# Altium integrated library ON Semi Zener Diodes.IntLib: 1366 symbols (part 4 of 29)
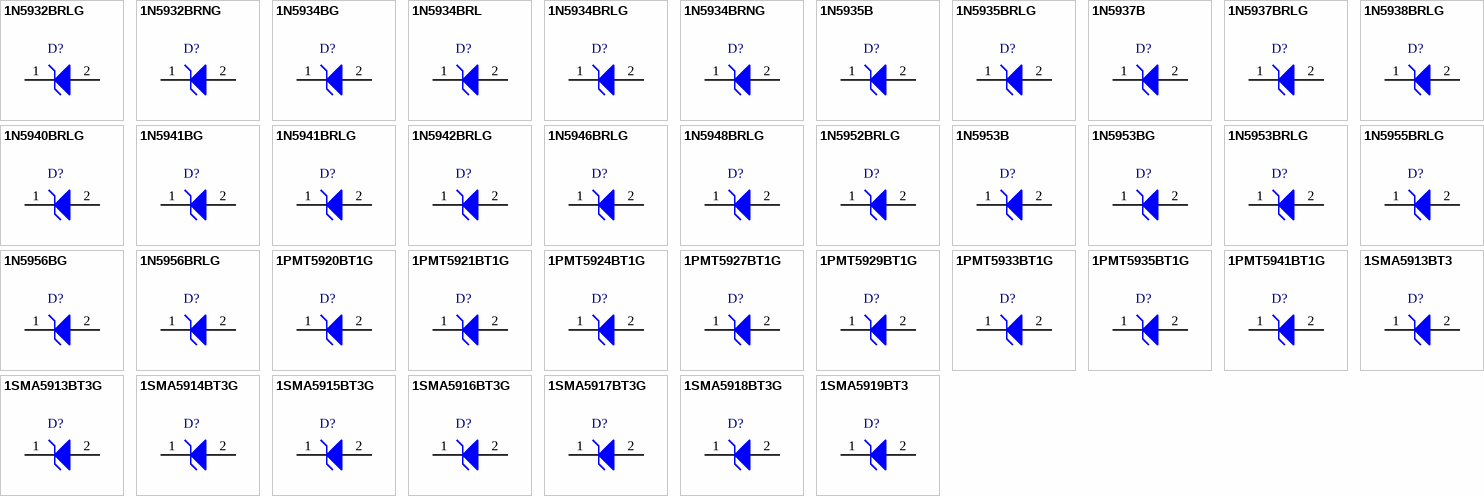
[diagram p47: symbols 1N5932BRLG to 1SMA5919BT3]

## 1N5953BRLG
designator D?
3 W Zener Voltage Regulator, 2-Pin Axial_Lead, Pb-Free, Tape and Reel; Manufacturer: On Semiconductor; PartNumber: 1N5953BRLG; VZ Typ (V): 150; DatasheetVersion: Rev. 5; PackageVersion: Rev. U, 02/2005; PackageReference: AXIAL_LEAD-2-59-10; PackageDescription: 2-Pin, Axial Lead, Diameter 2.35 mm; Supplier 1: Digi-Key; Supplier Part Number 1: 1N5953BRLGOSTR-ND; Supplier 2: Digi-Key; Supplier Part Number 2: 1N5953BRLGOSCT-ND; Supplier 3: Farnell; Supplier Part Number 3: 1861231; Supplier 4: Newark; Supplier Part Number 4: 09R9780; Supplier 5: Mouser; Supplier Part Number 5: 863-1N5953BRLG; Packing: Tape and Reel; RoHS: Pb-Free; Mounting Technology: Through Hole; ComponentLink1Description: Manufacturer URL; ComponentLink1URL: http://www.onsemi.com/; ComponentLink2Description: Datasheet; ComponentLink2URL: http://www.onsemi.cn/pub_link/Collateral/1N5913B-D.PDF; ComponentLink3Description: Package Specification; ComponentLink3URL: http://www.onsemi.cn/pub_link/Collateral/59-10.PDF
footprint ONSC-AXIAL_LEAD-2-59-10_P (AXIAL, 2-Leads, Diameter 2.35mm)
pins: 1 K, 2 A

## 1N5955BRLG
designator D?
3 W Zener Voltage Regulator, 2-Pin Axial_Lead, Pb-Free, Tape and Reel; Manufacturer: On Semiconductor; PartNumber: 1N5955BRLG; VZ Typ (V): 180; DatasheetVersion: Rev. 5; PackageVersion: Rev. U, 02/2005; PackageReference: AXIAL_LEAD-2-59-10; PackageDescription: 2-Pin, Axial Lead, Diameter 2.35 mm; Supplier 1: Digi-Key; Supplier Part Number 1: 1N5955BRLGOSTR-ND; Supplier 2: Digi-Key; Supplier Part Number 2: 1N5955BRLGOSCT-ND; Supplier 3: Farnell; Supplier Part Number 3: 1705688; Supplier 4: Newark; Supplier Part Number 4: 10N9646; Supplier 5: Newark; Supplier Part Number 5: 42K2997; Supplier 6: Mouser; Supplier Part Number 6: 863-1N5955BRLG; Packing: Tape and Reel; RoHS: Pb-Free; Mounting Technology: Through Hole; ComponentLink1Description: Manufacturer URL; ComponentLink1URL: http://www.onsemi.com/; ComponentLink2Description: Datasheet; ComponentLink2URL: http://www.onsemi.cn/pub_link/Collateral/1N5913B-D.PDF; ComponentLink3Description: Package Specification; ComponentLink3URL: http://www.onsemi.cn/pub_link/Collateral/59-10.PDF
footprint ONSC-AXIAL_LEAD-2-59-10_P (AXIAL, 2-Leads, Diameter 2.35mm)
pins: 1 K, 2 A

## 1N5956BG
designator D?
3 W Zener Voltage Regulator, 2-Pin Axial_Lead, Pb-Free, Bulk Box; Manufacturer: On Semiconductor; PartNumber: 1N5956BG; VZ Typ (V): 200; DatasheetVersion: Rev. 5; PackageVersion: Rev. U, 02/2005; PackageReference: AXIAL_LEAD-2-59-10; PackageDescription: 2-Pin, Axial Lead, Diameter 2.35 mm; Supplier 1: Digi-Key; Supplier Part Number 1: 1N5956BGOS-ND; Supplier 2: Farnell; Supplier Part Number 2: 1126329; Supplier 3: Mouser; Supplier Part Number 3: 863-1N5956BG; Packing: Bulk Box; RoHS: Pb-Free; Mounting Technology: Through Hole; ComponentLink1Description: Manufacturer URL; ComponentLink1URL: http://www.onsemi.com/; ComponentLink2Description: Datasheet; ComponentLink2URL: http://www.onsemi.cn/pub_link/Collateral/1N5913B-D.PDF; ComponentLink3Description: Package Specification; ComponentLink3URL: http://www.onsemi.cn/pub_link/Collateral/59-10.PDF
footprint ONSC-AXIAL_LEAD-2-59-10_P (AXIAL, 2-Leads, Diameter 2.35mm)
pins: 1 K, 2 A

## 1N5956BRLG
designator D?
3 W Zener Voltage Regulator, 2-Pin Axial_Lead, Pb-Free, Tape and Reel; Manufacturer: On Semiconductor; PartNumber: 1N5956BRLG; VZ Typ (V): 200; DatasheetVersion: Rev. 5; PackageVersion: Rev. U, 02/2005; PackageReference: AXIAL_LEAD-2-59-10; PackageDescription: 2-Pin, Axial Lead, Diameter 2.35 mm; Supplier 1: Digi-Key; Supplier Part Number 1: 1N5956BRLGOSTR-ND; Supplier 2: Digi-Key; Supplier Part Number 2: 1N5956BRLGOSCT-ND; Supplier 3: Farnell; Supplier Part Number 3: 2101211; Supplier 4: Mouser; Supplier Part Number 4: 863-1N5956BRLG; Packing: Tape and Reel; RoHS: Pb-Free; Mounting Technology: Through Hole; ComponentLink1Description: Manufacturer URL; ComponentLink1URL: http://www.onsemi.com/; ComponentLink2Description: Datasheet; ComponentLink2URL: http://www.onsemi.cn/pub_link/Collateral/1N5913B-D.PDF; ComponentLink3Description: Package Specification; ComponentLink3URL: http://www.onsemi.cn/pub_link/Collateral/59-10.PDF
footprint ONSC-AXIAL_LEAD-2-59-10_P (AXIAL, 2-Leads, Diameter 2.35mm)
pins: 1 K, 2 A

## 1PMT5920BT1G
designator D?
3.2 W Plastic Surface Mount, 2-Pin POWERMITE, Pb-Free, Tape and Reel; Manufacturer: On Semiconductor; PartNumber: 1PMT5920BT1G; VZ Typ (V): 6.2; DatasheetVersion: Rev. 4; PackageVersion: Rev. F, 05/2013; PackageReference: POWERMITE-2-457-04; PackageDescription: 2-Pin POWERMITE, Body 1.965 x 1.9 mm; Supplier 1: Digi-Key; Supplier Part Number 1: 1PMT5920BT1GOSTR-ND; Supplier 2: Digi-Key; Supplier Part Number 2: 1PMT5920BT1GOSCT-ND; Supplier 3: Digi-Key; Supplier Part Number 3: 1PMT5920BT1GOSDKR-ND; Supplier 4: Farnell; Supplier Part Number 4: 1431128RL; Supplier 5: Newark; Supplier Part Number 5: 10N9648; Supplier 6: Newark; Supplier Part Number 6: 45J2403; Supplier 7: Mouser; Supplier Part Number 7: 863-1PMT5920BT1G; Packing: Tape and Reel; RoHS: Pb-Free; Mounting Technology: Surface Mount; ComponentLink1Description: Manufacturer URL; ComponentLink1URL: http://www.onsemi.com/; ComponentLink2Description: Datasheet; ComponentLink2URL: http://www.onsemi.com/pub_link/Collateral/1PMT5920B-D.PDF; ComponentLink3Description: Package Specification; ComponentLink3URL: http://www.onsemi.com/pub_link/Collateral/457-04.PDF
footprint ONSC-POWERMITE-2-457-04_D_V (POWERMITE, 2-Leads, Body 1.965x1.9mm)
pins: 1 K, 2 A

## 1PMT5921BT1G
designator D?
3.2 W Plastic Surface Mount, 2-Pin POWERMITE, Pb-Free, Tape and Reel; Manufacturer: On Semiconductor; PartNumber: 1PMT5921BT1G; VZ Typ (V): 6.8; DatasheetVersion: Rev. 4; PackageVersion: Rev. F, 05/2013; PackageReference: POWERMITE-2-457-04; PackageDescription: 2-Pin POWERMITE, Body 1.965 x 1.9 mm; Supplier 1: Digi-Key; Supplier Part Number 1: 1PMT5921BT1GOSTR-ND; Supplier 2: Digi-Key; Supplier Part Number 2: 1PMT5921BT1GOSCT-ND; Supplier 3: Digi-Key; Supplier Part Number 3: 1PMT5921BT1GOSDKR-ND; Supplier 4: Newark; Supplier Part Number 4: 61K2042; Supplier 5: Mouser; Supplier Part Number 5: 863-1PMT5921BT1G; Packing: Tape and Reel; RoHS: Pb-Free; Mounting Technology: Surface Mount; ComponentLink1Description: Manufacturer URL; ComponentLink1URL: http://www.onsemi.com/; ComponentLink2Description: Datasheet; ComponentLink2URL: http://www.onsemi.com/pub_link/Collateral/1PMT5920B-D.PDF; ComponentLink3Description: Package Specification; ComponentLink3URL: http://www.onsemi.com/pub_link/Collateral/457-04.PDF
footprint ONSC-POWERMITE-2-457-04_D_V (POWERMITE, 2-Leads, Body 1.965x1.9mm)
pins: 1 K, 2 A

## 1PMT5924BT1G
designator D?
3.2 W Plastic Surface Mount, 2-Pin POWERMITE, Pb-Free, Tape and Reel; Manufacturer: On Semiconductor; PartNumber: 1PMT5924BT1G; VZ Typ (V): 9.1; DatasheetVersion: Rev. 4; PackageVersion: Rev. F, 05/2013; PackageReference: POWERMITE-2-457-04; PackageDescription: 2-Pin POWERMITE, Body 1.965 x 1.9 mm; Supplier 1: Digi-Key; Supplier Part Number 1: 1PMT5924BT1GOSTR-ND; Supplier 2: Digi-Key; Supplier Part Number 2: 1PMT5924BT1GOSCT-ND; Supplier 3: Digi-Key; Supplier Part Number 3: 1PMT5924BT1GOSDKR-ND; Supplier 4: Newark; Supplier Part Number 4: 70K6994; Supplier 5: Mouser; Supplier Part Number 5: 863-1PMT5924BT1G; Packing: Tape and Reel; RoHS: Pb-Free; Mounting Technology: Surface Mount; ComponentLink1Description: Manufacturer URL; ComponentLink1URL: http://www.onsemi.com/; ComponentLink2Description: Datasheet; ComponentLink2URL: http://www.onsemi.com/pub_link/Collateral/1PMT5920B-D.PDF; ComponentLink3Description: Package Specification; ComponentLink3URL: http://www.onsemi.com/pub_link/Collateral/457-04.PDF
footprint ONSC-POWERMITE-2-457-04_D_V (POWERMITE, 2-Leads, Body 1.965x1.9mm)
pins: 1 K, 2 A

## 1PMT5927BT1G
designator D?
3.2 W Plastic Surface Mount, 2-Pin POWERMITE, Pb-Free, Tape and Reel; Manufacturer: On Semiconductor; PartNumber: 1PMT5927BT1G; VZ Typ (V): 12; DatasheetVersion: Rev. 4; PackageVersion: Rev. F, 05/2013; PackageReference: POWERMITE-2-457-04; PackageDescription: 2-Pin POWERMITE, Body 1.965 x 1.9 mm; Supplier 1: Digi-Key; Supplier Part Number 1: 1PMT5927BT1GOS-ND; Supplier 2: Newark; Supplier Part Number 2: 26K5241; Supplier 3: Mouser; Supplier Part Number 3: 863-1PMT5927BT1G; Packing: Tape and Reel; RoHS: Pb-Free; Mounting Technology: Surface Mount; ComponentLink1Description: Manufacturer URL; ComponentLink1URL: http://www.onsemi.com/; ComponentLink2Description: Datasheet; ComponentLink2URL: http://www.onsemi.com/pub_link/Collateral/1PMT5920B-D.PDF; ComponentLink3Description: Package Specification; ComponentLink3URL: http://www.onsemi.com/pub_link/Collateral/457-04.PDF
footprint ONSC-POWERMITE-2-457-04_D_V (POWERMITE, 2-Leads, Body 1.965x1.9mm)
pins: 1 K, 2 A

## 1PMT5929BT1G
designator D?
3.2 W Plastic Surface Mount, 2-Pin POWERMITE, Pb-Free, Tape and Reel; Manufacturer: On Semiconductor; PartNumber: 1PMT5929BT1G; VZ Typ (V): 15; DatasheetVersion: Rev. 4; PackageVersion: Rev. F, 05/2013; PackageReference: POWERMITE-2-457-04; PackageDescription: 2-Pin POWERMITE, Body 1.965 x 1.9 mm; Supplier 1: Digi-Key; Supplier Part Number 1: 1PMT5929BT1GOSTR-ND; Supplier 2: Digi-Key; Supplier Part Number 2: 1PMT5929BT1GOSCT-ND; Supplier 3: Newark; Supplier Part Number 3: 45J2404; Supplier 4: Mouser; Supplier Part Number 4: 863-1PMT5929BT1G; Packing: Tape and Reel; RoHS: Pb-Free; Mounting Technology: Surface Mount; ComponentLink1Description: Manufacturer URL; ComponentLink1URL: http://www.onsemi.com/; ComponentLink2Description: Datasheet; ComponentLink2URL: http://www.onsemi.com/pub_link/Collateral/1PMT5920B-D.PDF; ComponentLink3Description: Package Specification; ComponentLink3URL: http://www.onsemi.com/pub_link/Collateral/457-04.PDF
footprint ONSC-POWERMITE-2-457-04_D_V (POWERMITE, 2-Leads, Body 1.965x1.9mm)
pins: 1 K, 2 A

## 1PMT5933BT1G
designator D?
3.2 W Plastic Surface Mount, 2-Pin POWERMITE, Pb-Free, Tape and Reel; Manufacturer: On Semiconductor; PartNumber: 1PMT5933BT1G; VZ Typ (V): 22; DatasheetVersion: Rev. 4; PackageVersion: Rev. F, 05/2013; PackageReference: POWERMITE-2-457-04; PackageDescription: 2-Pin POWERMITE, Body 1.965 x 1.9 mm; Supplier 1: Digi-Key; Supplier Part Number 1: 1PMT5933BT1G-ND; Supplier 2: Newark; Supplier Part Number 2: 70K6998; Supplier 3: Mouser; Supplier Part Number 3: 863-1PMT5933BT1G; Packing: Tape and Reel; RoHS: Pb-Free; Mounting Technology: Surface Mount; ComponentLink1Description: Manufacturer URL; ComponentLink1URL: http://www.onsemi.com/; ComponentLink2Description: Datasheet; ComponentLink2URL: http://www.onsemi.com/pub_link/Collateral/1PMT5920B-D.PDF; ComponentLink3Description: Package Specification; ComponentLink3URL: http://www.onsemi.com/pub_link/Collateral/457-04.PDF
footprint ONSC-POWERMITE-2-457-04_D_V (POWERMITE, 2-Leads, Body 1.965x1.9mm)
pins: 1 K, 2 A

## 1PMT5935BT1G
designator D?
3.2 W Plastic Surface Mount, 2-Pin POWERMITE, Pb-Free, Tape and Reel; Manufacturer: On Semiconductor; PartNumber: 1PMT5935BT1G; VZ Typ (V): 27; DatasheetVersion: Rev. 4; PackageVersion: Rev. F, 05/2013; PackageReference: POWERMITE-2-457-04; PackageDescription: 2-Pin POWERMITE, Body 1.965 x 1.9 mm; Supplier 1: Digi-Key; Supplier Part Number 1: 1PMT5935BT1G-ND; Supplier 2: Newark; Supplier Part Number 2: 70K7000; Supplier 3: Mouser; Supplier Part Number 3: 863-1PMT5935BT1G; Packing: Tape and Reel; RoHS: Pb-Free; Mounting Technology: Surface Mount; ComponentLink1Description: Manufacturer URL; ComponentLink1URL: http://www.onsemi.com/; ComponentLink2Description: Datasheet; ComponentLink2URL: http://www.onsemi.com/pub_link/Collateral/1PMT5920B-D.PDF; ComponentLink3Description: Package Specification; ComponentLink3URL: http://www.onsemi.com/pub_link/Collateral/457-04.PDF
footprint ONSC-POWERMITE-2-457-04_D_V (POWERMITE, 2-Leads, Body 1.965x1.9mm)
pins: 1 K, 2 A

## 1PMT5941BT1G
designator D?
3.2 W Plastic Surface Mount, 2-Pin POWERMITE, Pb-Free, Tape and Reel; Manufacturer: On Semiconductor; PartNumber: 1PMT5941BT1G; VZ Typ (V): 47; DatasheetVersion: Rev. 4; PackageVersion: Rev. F, 05/2013; PackageReference: POWERMITE-2-457-04; PackageDescription: 2-Pin POWERMITE, Body 1.965 x 1.9 mm; Supplier 1: Digi-Key; Supplier Part Number 1: 1PMT5941BT1GOS-ND; Supplier 2: Mouser; Supplier Part Number 2: 863-1PMT5941BT1G; Packing: Tape and Reel; RoHS: Pb-Free; Mounting Technology: Surface Mount; ComponentLink1Description: Manufacturer URL; ComponentLink1URL: http://www.onsemi.com/; ComponentLink2Description: Datasheet; ComponentLink2URL: http://www.onsemi.com/pub_link/Collateral/1PMT5920B-D.PDF; ComponentLink3Description: Package Specification; ComponentLink3URL: http://www.onsemi.com/pub_link/Collateral/457-04.PDF
footprint ONSC-POWERMITE-2-457-04_D_V (POWERMITE, 2-Leads, Body 1.965x1.9mm)
pins: 1 K, 2 A

## 1SMA5913BT3
designator D?
1.5 W Zener Voltage Regulator, 2-Pin SMA, Tape and Reel; Manufacturer: On Semiconductor; PartNumber: 1SMA5913BT3; VZ Typ (V): 3.3; DatasheetVersion: Rev. 8; PackageVersion: Rev. F, 11/2008; PackageReference: SMA-2-403D-02_F; PackageDescription: 2-Pin Small Molded Package, J-Bend Lead, Body 2.605 x 4.315 mm; Supplier 1: Digi-Key; Supplier Part Number 1: 1SMA5913BT3OSTR-ND; Supplier 2: Digi-Key; Supplier Part Number 2: 1SMA5913BT3OSCT-ND; Supplier 3: Digi-Key; Supplier Part Number 3: 1SMA5913BT3OSDKR-ND; Packing: Tape and Reel; Mounting Technology: Surface Mount; ComponentLink1Description: Manufacturer URL; ComponentLink1URL: http://www.onsemi.com/; ComponentLink2Description: Datasheet; ComponentLink2URL: http://www.onsemi.com/pub_link/Collateral/1SMA5913BT3-D.PDF; ComponentLink3Description: Package Specification; ComponentLink3URL: http://www.onsemi.com/pub_link/Collateral/1SMA5913BT3-D.PDF
footprint ONSC-SMA-2-403D-02_F_V (Molded, 2-Leads, Body 4.32x2.6mm)
pins: 1 K, 2 A

## 1SMA5913BT3G
designator D?
1.5 W Zener Voltage Regulator, 2-Pin SMA, Pb-Free, Tape and Reel; Manufacturer: On Semiconductor; PartNumber: 1SMA5913BT3G; VZ Typ (V): 3.3; DatasheetVersion: Rev. 8; PackageVersion: Rev. F, 11/2008; PackageReference: SMA-2-403D-02_F; PackageDescription: 2-Pin Small Molded Package, J-Bend Lead, Body 2.605 x 4.315 mm; Supplier 1: Digi-Key; Supplier Part Number 1: 1SMA5913BT3GOSTR-ND; Supplier 2: Digi-Key; Supplier Part Number 2: 1SMA5913BT3GOSCT-ND; Supplier 3: Digi-Key; Supplier Part Number 3: 1SMA5913BT3GOSDKR-ND; Supplier 4: Farnell; Supplier Part Number 4: 1431138RL; Supplier 5: Farnell; Supplier Part Number 5: 1431138; Supplier 6: Newark; Supplier Part Number 6: 26K5252; Supplier 7: Mouser; Supplier Part Number 7: 863-1SMA5913BT3G; Packing: Tape and Reel; RoHS: Pb-Free; Mounting Technology: Surface Mount; ComponentLink1Description: Manufacturer URL; ComponentLink1URL: http://www.onsemi.com/; ComponentLink2Description: Datasheet; ComponentLink2URL: http://www.onsemi.com/pub_link/Collateral/1SMA5913BT3-D.PDF; ComponentLink3Description: Package Specification; ComponentLink3URL: http://www.onsemi.com/pub_link/Collateral/1SMA5913BT3-D.PDF
footprint ONSC-SMA-2-403D-02_F_V (Molded, 2-Leads, Body 4.32x2.6mm)
pins: 1 K, 2 A

## 1SMA5914BT3G
designator D?
1.5 W Zener Voltage Regulator, 2-Pin SMA, Pb-Free, Tape and Reel; Manufacturer: On Semiconductor; PartNumber: 1SMA5914BT3G; VZ Typ (V): 3.6; DatasheetVersion: Rev. 8; PackageVersion: Rev. F, 11/2008; PackageReference: SMA-2-403D-02_F; PackageDescription: 2-Pin Small Molded Package, J-Bend Lead, Body 2.605 x 4.315 mm; Supplier 1: Digi-Key; Supplier Part Number 1: 1SMA5914BT3GOSTR-ND; Supplier 2: Digi-Key; Supplier Part Number 2: 1SMA5914BT3GOSCT-ND; Supplier 3: Digi-Key; Supplier Part Number 3: 1SMA5914BT3GOSDKR-ND; Supplier 4: Farnell; Supplier Part Number 4: 1611420RL; Supplier 5: Farnell; Supplier Part Number 5: 1611420; Supplier 6: Newark; Supplier Part Number 6: 26K5253; Supplier 7: Mouser; Supplier Part Number 7: 863-1SMA5914BT3G; Packing: Tape and Reel; RoHS: Pb-Free; Mounting Technology: Surface Mount; ComponentLink1Description: Manufacturer URL; ComponentLink1URL: http://www.onsemi.com/; ComponentLink2Description: Datasheet; ComponentLink2URL: http://www.onsemi.com/pub_link/Collateral/1SMA5913BT3-D.PDF; ComponentLink3Description: Package Specification; ComponentLink3URL: http://www.onsemi.com/pub_link/Collateral/1SMA5913BT3-D.PDF
footprint ONSC-SMA-2-403D-02_F_V (Molded, 2-Leads, Body 4.32x2.6mm)
pins: 1 K, 2 A

## 1SMA5915BT3G
designator D?
1.5 W Zener Voltage Regulator, 2-Pin SMA, Pb-Free, Tape and Reel; Manufacturer: On Semiconductor; PartNumber: 1SMA5915BT3G; VZ Typ (V): 3.9; DatasheetVersion: Rev. 8; PackageVersion: Rev. F, 11/2008; PackageReference: SMA-2-403D-02_F; PackageDescription: 2-Pin Small Molded Package, J-Bend Lead, Body 2.605 x 4.315 mm; Supplier 1: Digi-Key; Supplier Part Number 1: 1SMA5915BT3GOSTR-ND; Supplier 2: Digi-Key; Supplier Part Number 2: 1SMA5915BT3GOSCT-ND; Supplier 3: Digi-Key; Supplier Part Number 3: 1SMA5915BT3GOSDKR-ND; Supplier 4: Farnell; Supplier Part Number 4: 1459010RL; Supplier 5: Farnell; Supplier Part Number 5: 1459010; Supplier 6: Newark; Supplier Part Number 6: 45J2416; Supplier 7: Mouser; Supplier Part Number 7: 863-1SMA5915BT3G; Packing: Tape and Reel; RoHS: Pb-Free; Mounting Technology: Surface Mount; ComponentLink1Description: Manufacturer URL; ComponentLink1URL: http://www.onsemi.com/; ComponentLink2Description: Datasheet; ComponentLink2URL: http://www.onsemi.com/pub_link/Collateral/1SMA5913BT3-D.PDF; ComponentLink3Description: Package Specification; ComponentLink3URL: http://www.onsemi.com/pub_link/Collateral/1SMA5913BT3-D.PDF
footprint ONSC-SMA-2-403D-02_F_V (Molded, 2-Leads, Body 4.32x2.6mm)
pins: 1 K, 2 A

## 1SMA5916BT3G
designator D?
1.5 W Zener Voltage Regulator, 2-Pin SMA, Pb-Free, Tape and Reel; Manufacturer: On Semiconductor; PartNumber: 1SMA5916BT3G; VZ Typ (V): 4.3; DatasheetVersion: Rev. 8; PackageVersion: Rev. F, 11/2008; PackageReference: SMA-2-403D-02_F; PackageDescription: 2-Pin Small Molded Package, J-Bend Lead, Body 2.605 x 4.315 mm; Supplier 1: Digi-Key; Supplier Part Number 1: 1SMA5916BT3GOSTR-ND; Supplier 2: Digi-Key; Supplier Part Number 2: 1SMA5916BT3GOSCT-ND; Supplier 3: Digi-Key; Supplier Part Number 3: 1SMA5916BT3GOSDKR-ND; Supplier 4: Farnell; Supplier Part Number 4: 1703016RL; Supplier 5: Farnell; Supplier Part Number 5: 1703016; Supplier 6: Newark; Supplier Part Number 6: 71J9193; Supplier 7: Mouser; Supplier Part Number 7: 863-1SMA5916BT3G; Packing: Tape and Reel; RoHS: Pb-Free; Mounting Technology: Surface Mount; ComponentLink1Description: Manufacturer URL; ComponentLink1URL: http://www.onsemi.com/; ComponentLink2Description: Datasheet; ComponentLink2URL: http://www.onsemi.com/pub_link/Collateral/1SMA5913BT3-D.PDF; ComponentLink3Description: Package Specification; ComponentLink3URL: http://www.onsemi.com/pub_link/Collateral/1SMA5913BT3-D.PDF
footprint ONSC-SMA-2-403D-02_F_V (Molded, 2-Leads, Body 4.32x2.6mm)
pins: 1 K, 2 A

## 1SMA5917BT3G
designator D?
1.5 W Zener Voltage Regulator, 2-Pin SMA, Pb-Free, Tape and Reel; Manufacturer: On Semiconductor; PartNumber: 1SMA5917BT3G; VZ Typ (V): 4.7; DatasheetVersion: Rev. 8; PackageVersion: Rev. F, 11/2008; PackageReference: SMA-2-403D-02_F; PackageDescription: 2-Pin Small Molded Package, J-Bend Lead, Body 2.605 x 4.315 mm; Supplier 1: Digi-Key; Supplier Part Number 1: 1SMA5917BT3GOSTR-ND; Supplier 2: Digi-Key; Supplier Part Number 2: 1SMA5917BT3GOSCT-ND; Supplier 3: Digi-Key; Supplier Part Number 3: 1SMA5917BT3GOSDKR-ND; Supplier 4: Farnell; Supplier Part Number 4: 1431139; Supplier 5: Farnell; Supplier Part Number 5: 1431139RL; Supplier 6: Newark; Supplier Part Number 6: 26K5254; Supplier 7: Mouser; Supplier Part Number 7: 863-1SMA5917BT3G; Packing: Tape and Reel; RoHS: Pb-Free; Mounting Technology: Surface Mount; ComponentLink1Description: Manufacturer URL; ComponentLink1URL: http://www.onsemi.com/; ComponentLink2Description: Datasheet; ComponentLink2URL: http://www.onsemi.com/pub_link/Collateral/1SMA5913BT3-D.PDF; ComponentLink3Description: Package Specification; ComponentLink3URL: http://www.onsemi.com/pub_link/Collateral/1SMA5913BT3-D.PDF
footprint ONSC-SMA-2-403D-02_F_V (Molded, 2-Leads, Body 4.32x2.6mm)
pins: 1 K, 2 A

## 1SMA5918BT3G
designator D?
1.5 W Zener Voltage Regulator, 2-Pin SMA, Pb-Free, Tape and Reel; Manufacturer: On Semiconductor; PartNumber: 1SMA5918BT3G; VZ Typ (V): 5.1; DatasheetVersion: Rev. 8; PackageVersion: Rev. F, 11/2008; PackageReference: SMA-2-403D-02_F; PackageDescription: 2-Pin Small Molded Package, J-Bend Lead, Body 2.605 x 4.315 mm; Supplier 1: Digi-Key; Supplier Part Number 1: 1SMA5918BT3GOSTR-ND; Supplier 2: Digi-Key; Supplier Part Number 2: 1SMA5918BT3GOSCT-ND; Supplier 3: Digi-Key; Supplier Part Number 3: 1SMA5918BT3GOSDKR-ND; Supplier 4: Farnell; Supplier Part Number 4: 1431140; Supplier 5: Farnell; Supplier Part Number 5: 1431140RL; Supplier 6: Newark; Supplier Part Number 6: 71J9194; Supplier 7: Mouser; Supplier Part Number 7: 863-1SMA5918BT3G; Packing: Tape and Reel; RoHS: Pb-Free; Mounting Technology: Surface Mount; ComponentLink1Description: Manufacturer URL; ComponentLink1URL: http://www.onsemi.com/; ComponentLink2Description: Datasheet; ComponentLink2URL: http://www.onsemi.com/pub_link/Collateral/1SMA5913BT3-D.PDF; ComponentLink3Description: Package Specification; ComponentLink3URL: http://www.onsemi.com/pub_link/Collateral/1SMA5913BT3-D.PDF
footprint ONSC-SMA-2-403D-02_F_V (Molded, 2-Leads, Body 4.32x2.6mm)
pins: 1 K, 2 A

## 1SMA5919BT3
designator D?
1.5 W Zener Voltage Regulator, 2-Pin SMA, Tape and Reel; Manufacturer: On Semiconductor; PartNumber: 1SMA5919BT3; VZ Typ (V): 5.6; DatasheetVersion: Rev. 8; PackageVersion: Rev. F, 11/2008; PackageReference: SMA-2-403D-02_F; PackageDescription: 2-Pin Small Molded Package, J-Bend Lead, Body 2.605 x 4.315 mm; Supplier 1: Digi-Key; Supplier Part Number 1: 1SMA5919BT3OSCT-ND; Supplier 2: Digi-Key; Supplier Part Number 2: 1SMA5919BT3OSDKR-ND; Packing: Tape and Reel; Mounting Technology: Surface Mount; ComponentLink1Description: Manufacturer URL; ComponentLink1URL: http://www.onsemi.com/; ComponentLink2Description: Datasheet; ComponentLink2URL: http://www.onsemi.com/pub_link/Collateral/1SMA5913BT3-D.PDF; ComponentLink3Description: Package Specification; ComponentLink3URL: http://www.onsemi.com/pub_link/Collateral/1SMA5913BT3-D.PDF
footprint ONSC-SMA-2-403D-02_F_V (Molded, 2-Leads, Body 4.32x2.6mm)
pins: 1 K, 2 A

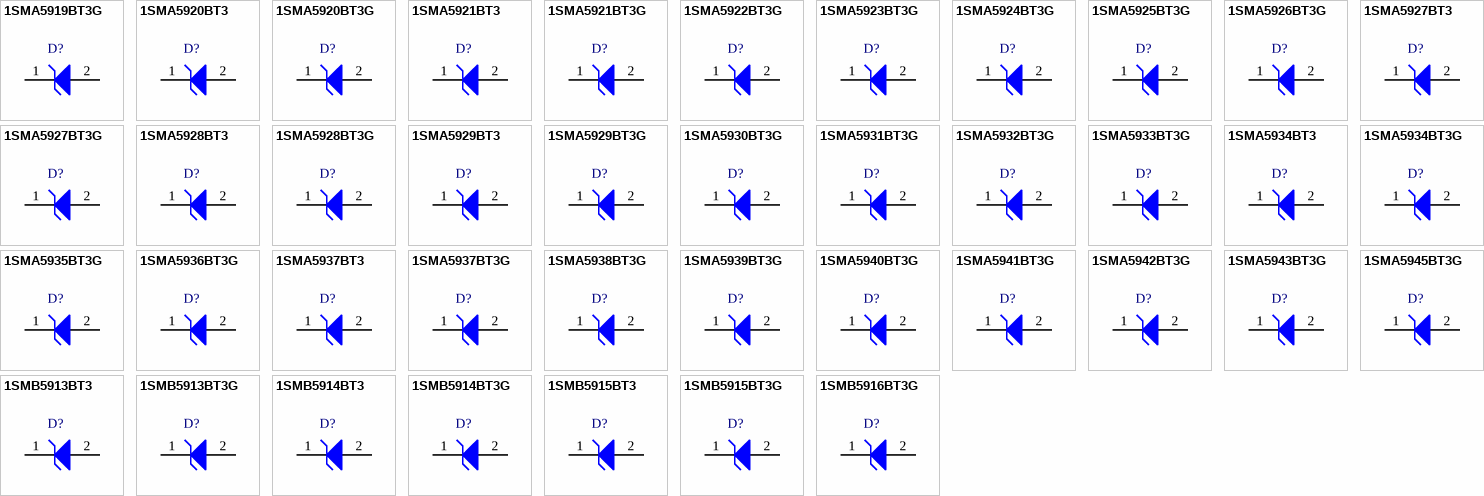
[diagram p4: symbols 1SMA5919BT3G to 1SMB5916BT3G]

## 1SMA5919BT3G
designator D?
1.5 W Zener Voltage Regulator, 2-Pin SMA, Pb-Free, Tape and Reel; Manufacturer: On Semiconductor; PartNumber: 1SMA5919BT3G; VZ Typ (V): 5.6; DatasheetVersion: Rev. 8; PackageVersion: Rev. F, 11/2008; PackageReference: SMA-2-403D-02_F; PackageDescription: 2-Pin Small Molded Package, J-Bend Lead, Body 2.605 x 4.315 mm; Supplier 1: Digi-Key; Supplier Part Number 1: 1SMA5919BT3GOSTR-ND; Supplier 2: Digi-Key; Supplier Part Number 2: 1SMA5919BT3GOSCT-ND; Supplier 3: Digi-Key; Supplier Part Number 3: 1SMA5919BT3GOSDKR-ND; Supplier 4: Farnell; Supplier Part Number 4: 1431141RL; Supplier 5: Farnell; Supplier Part Number 5: 1431141; Supplier 6: Farnell; Supplier Part Number 6: 2370849; Supplier 7: Newark; Supplier Part Number 7: 67R1400; Supplier 8: Newark; Supplier Part Number 8: 71J9195; Supplier 9: Mouser; Supplier Part Number 9: 863-1SMA5919BT3G; Packing: Tape and Reel; RoHS: Pb-Free; Mounting Technology: Surface Mount; ComponentLink1Description: Manufacturer URL; ComponentLink1URL: http://www.onsemi.com/; ComponentLink2Description: Datasheet; ComponentLink2URL: http://www.onsemi.com/pub_link/Collateral/1SMA5913BT3-D.PDF; ComponentLink3Description: Package Specification; ComponentLink3URL: http://www.onsemi.com/pub_link/Collateral/1SMA5913BT3-D.PDF
footprint ONSC-SMA-2-403D-02_F_V (Molded, 2-Leads, Body 4.32x2.6mm)
pins: 1 K, 2 A

## 1SMA5920BT3
designator D?
1.5 W Zener Voltage Regulator, 2-Pin SMA, Tape and Reel; Manufacturer: On Semiconductor; PartNumber: 1SMA5920BT3; VZ Typ (V): 6.2; DatasheetVersion: Rev. 8; PackageVersion: Rev. F, 11/2008; PackageReference: SMA-2-403D-02_F; PackageDescription: 2-Pin Small Molded Package, J-Bend Lead, Body 2.605 x 4.315 mm; Supplier 1: Digi-Key; Supplier Part Number 1: 1SMA5920BT3OSCT-ND; Supplier 2: Digi-Key; Supplier Part Number 2: 1SMA5920BT3OSDKR-ND; Packing: Tape and Reel; Mounting Technology: Surface Mount; ComponentLink1Description: Manufacturer URL; ComponentLink1URL: http://www.onsemi.com/; ComponentLink2Description: Datasheet; ComponentLink2URL: http://www.onsemi.com/pub_link/Collateral/1SMA5913BT3-D.PDF; ComponentLink3Description: Package Specification; ComponentLink3URL: http://www.onsemi.com/pub_link/Collateral/1SMA5913BT3-D.PDF
footprint ONSC-SMA-2-403D-02_F_V (Molded, 2-Leads, Body 4.32x2.6mm)
pins: 1 K, 2 A

## 1SMA5920BT3G
designator D?
1.5 W Zener Voltage Regulator, 2-Pin SMA, Pb-Free, Tape and Reel; Manufacturer: On Semiconductor; PartNumber: 1SMA5920BT3G; VZ Typ (V): 6.2; DatasheetVersion: Rev. 8; PackageVersion: Rev. F, 11/2008; PackageReference: SMA-2-403D-02_F; PackageDescription: 2-Pin Small Molded Package, J-Bend Lead, Body 2.605 x 4.315 mm; Supplier 1: Digi-Key; Supplier Part Number 1: 1SMA5920BT3GOSTR-ND; Supplier 2: Digi-Key; Supplier Part Number 2: 1SMA5920BT3GOSCT-ND; Supplier 3: Digi-Key; Supplier Part Number 3: 1SMA5920BT3GOSDKR-ND; Supplier 4: Farnell; Supplier Part Number 4: 1431142; Supplier 5: Farnell; Supplier Part Number 5: 1431142RL; Supplier 6: Newark; Supplier Part Number 6: 45J2417; Supplier 7: Mouser; Supplier Part Number 7: 863-1SMA5920BT3G; Packing: Tape and Reel; RoHS: Pb-Free; Mounting Technology: Surface Mount; ComponentLink1Description: Manufacturer URL; ComponentLink1URL: http://www.onsemi.com/; ComponentLink2Description: Datasheet; ComponentLink2URL: http://www.onsemi.com/pub_link/Collateral/1SMA5913BT3-D.PDF; ComponentLink3Description: Package Specification; ComponentLink3URL: http://www.onsemi.com/pub_link/Collateral/1SMA5913BT3-D.PDF
footprint ONSC-SMA-2-403D-02_F_V (Molded, 2-Leads, Body 4.32x2.6mm)
pins: 1 K, 2 A

## 1SMA5921BT3
designator D?
1.5 W Zener Voltage Regulator, 2-Pin SMA, Tape and Reel; Manufacturer: On Semiconductor; PartNumber: 1SMA5921BT3; VZ Typ (V): 6.8; DatasheetVersion: Rev. 8; PackageVersion: Rev. F, 11/2008; PackageReference: SMA-2-403D-02_F; PackageDescription: 2-Pin Small Molded Package, J-Bend Lead, Body 2.605 x 4.315 mm; Packing: Tape and Reel; Mounting Technology: Surface Mount; ComponentLink1Description: Manufacturer URL; ComponentLink1URL: http://www.onsemi.com/; ComponentLink2Description: Datasheet; ComponentLink2URL: http://www.onsemi.com/pub_link/Collateral/1SMA5913BT3-D.PDF; ComponentLink3Description: Package Specification; ComponentLink3URL: http://www.onsemi.com/pub_link/Collateral/1SMA5913BT3-D.PDF
footprint ONSC-SMA-2-403D-02_F_V (Molded, 2-Leads, Body 4.32x2.6mm)
pins: 1 K, 2 A

## 1SMA5921BT3G
designator D?
1.5 W Zener Voltage Regulator, 2-Pin SMA, Pb-Free, Tape and Reel; Manufacturer: On Semiconductor; PartNumber: 1SMA5921BT3G; VZ Typ (V): 6.8; DatasheetVersion: Rev. 8; PackageVersion: Rev. F, 11/2008; PackageReference: SMA-2-403D-02_F; PackageDescription: 2-Pin Small Molded Package, J-Bend Lead, Body 2.605 x 4.315 mm; Supplier 1: Digi-Key; Supplier Part Number 1: 1SMA5921BT3GOSTR-ND; Supplier 2: Digi-Key; Supplier Part Number 2: 1SMA5921BT3GOSCT-ND; Supplier 3: Digi-Key; Supplier Part Number 3: 1SMA5921BT3GOSDKR-ND; Supplier 4: Farnell; Supplier Part Number 4: 1431143RL; Supplier 5: Farnell; Supplier Part Number 5: 1431143; Supplier 6: Newark; Supplier Part Number 6: 26K5255; Supplier 7: Newark; Supplier Part Number 7: 59M4313; Supplier 8: Mouser; Supplier Part Number 8: 863-1SMA5921BT3G; Packing: Tape and Reel; RoHS: Pb-Free; Mounting Technology: Surface Mount; ComponentLink1Description: Manufacturer URL; ComponentLink1URL: http://www.onsemi.com/; ComponentLink2Description: Datasheet; ComponentLink2URL: http://www.onsemi.com/pub_link/Collateral/1SMA5913BT3-D.PDF; ComponentLink3Description: Package Specification; ComponentLink3URL: http://www.onsemi.com/pub_link/Collateral/1SMA5913BT3-D.PDF
footprint ONSC-SMA-2-403D-02_F_V (Molded, 2-Leads, Body 4.32x2.6mm)
pins: 1 K, 2 A

## 1SMA5922BT3G
designator D?
1.5 W Zener Voltage Regulator, 2-Pin SMA, Pb-Free, Tape and Reel; Manufacturer: On Semiconductor; PartNumber: 1SMA5922BT3G; VZ Typ (V): 7.5; DatasheetVersion: Rev. 8; PackageVersion: Rev. F, 11/2008; PackageReference: SMA-2-403D-02_F; PackageDescription: 2-Pin Small Molded Package, J-Bend Lead, Body 2.605 x 4.315 mm; Supplier 1: Digi-Key; Supplier Part Number 1: 1SMA5922BT3GOSTR-ND; Supplier 2: Digi-Key; Supplier Part Number 2: 1SMA5922BT3GOSCT-ND; Supplier 3: Digi-Key; Supplier Part Number 3: 1SMA5922BT3GOSDKR-ND; Supplier 4: Farnell; Supplier Part Number 4: 1431144RL; Supplier 5: Farnell; Supplier Part Number 5: 1431144; Supplier 6: Newark; Supplier Part Number 6: 71J9196; Supplier 7: Newark; Supplier Part Number 7: 59M4314; Supplier 8: Mouser; Supplier Part Number 8: 863-1SMA5922BT3G; Packing: Tape and Reel; RoHS: Pb-Free; Mounting Technology: Surface Mount; ComponentLink1Description: Manufacturer URL; ComponentLink1URL: http://www.onsemi.com/; ComponentLink2Description: Datasheet; ComponentLink2URL: http://www.onsemi.com/pub_link/Collateral/1SMA5913BT3-D.PDF; ComponentLink3Description: Package Specification; ComponentLink3URL: http://www.onsemi.com/pub_link/Collateral/1SMA5913BT3-D.PDF
footprint ONSC-SMA-2-403D-02_F_V (Molded, 2-Leads, Body 4.32x2.6mm)
pins: 1 K, 2 A

## 1SMA5923BT3G
designator D?
1.5 W Zener Voltage Regulator, 2-Pin SMA, Pb-Free, Tape and Reel; Manufacturer: On Semiconductor; PartNumber: 1SMA5923BT3G; VZ Typ (V): 8.2; DatasheetVersion: Rev. 8; PackageVersion: Rev. F, 11/2008; PackageReference: SMA-2-403D-02_F; PackageDescription: 2-Pin Small Molded Package, J-Bend Lead, Body 2.605 x 4.315 mm; Supplier 1: Digi-Key; Supplier Part Number 1: 1SMA5923BT3GOSTR-ND; Supplier 2: Digi-Key; Supplier Part Number 2: 1SMA5923BT3GOSCT-ND; Supplier 3: Digi-Key; Supplier Part Number 3: 1SMA5923BT3GOSDKR-ND; Supplier 4: Farnell; Supplier Part Number 4: 1431145; Supplier 5: Farnell; Supplier Part Number 5: 1431145RL; Supplier 6: Newark; Supplier Part Number 6: 71J9197; Supplier 7: Mouser; Supplier Part Number 7: 863-1SMA5923BT3G; Packing: Tape and Reel; RoHS: Pb-Free; Mounting Technology: Surface Mount; ComponentLink1Description: Manufacturer URL; ComponentLink1URL: http://www.onsemi.com/; ComponentLink2Description: Datasheet; ComponentLink2URL: http://www.onsemi.com/pub_link/Collateral/1SMA5913BT3-D.PDF; ComponentLink3Description: Package Specification; ComponentLink3URL: http://www.onsemi.com/pub_link/Collateral/1SMA5913BT3-D.PDF
footprint ONSC-SMA-2-403D-02_F_V (Molded, 2-Leads, Body 4.32x2.6mm)
pins: 1 K, 2 A

## 1SMA5924BT3G
designator D?
1.5 W Zener Voltage Regulator, 2-Pin SMA, Pb-Free, Tape and Reel; Manufacturer: On Semiconductor; PartNumber: 1SMA5924BT3G; VZ Typ (V): 9.1; DatasheetVersion: Rev. 8; PackageVersion: Rev. F, 11/2008; PackageReference: SMA-2-403D-02_F; PackageDescription: 2-Pin Small Molded Package, J-Bend Lead, Body 2.605 x 4.315 mm; Supplier 1: Digi-Key; Supplier Part Number 1: 1SMA5924BT3G-ND; Supplier 2: Farnell; Supplier Part Number 2: 1364652; Supplier 3: Newark; Supplier Part Number 3: 45J2418; Supplier 4: Mouser; Supplier Part Number 4: 863-1SMA5924BT3G; Packing: Tape and Reel; RoHS: Pb-Free; Mounting Technology: Surface Mount; ComponentLink1Description: Manufacturer URL; ComponentLink1URL: http://www.onsemi.com/; ComponentLink2Description: Datasheet; ComponentLink2URL: http://www.onsemi.com/pub_link/Collateral/1SMA5913BT3-D.PDF; ComponentLink3Description: Package Specification; ComponentLink3URL: http://www.onsemi.com/pub_link/Collateral/1SMA5913BT3-D.PDF
footprint ONSC-SMA-2-403D-02_F_V (Molded, 2-Leads, Body 4.32x2.6mm)
pins: 1 K, 2 A

## 1SMA5925BT3G
designator D?
1.5 W Zener Voltage Regulator, 2-Pin SMA, Pb-Free, Tape and Reel; Manufacturer: On Semiconductor; PartNumber: 1SMA5925BT3G; VZ Typ (V): 10; DatasheetVersion: Rev. 8; PackageVersion: Rev. F, 11/2008; PackageReference: SMA-2-403D-02_F; PackageDescription: 2-Pin Small Molded Package, J-Bend Lead, Body 2.605 x 4.315 mm; Supplier 1: Digi-Key; Supplier Part Number 1: 1SMA5925BT3GOSTR-ND; Supplier 2: Digi-Key; Supplier Part Number 2: 1SMA5925BT3GOSCT-ND; Supplier 3: Digi-Key; Supplier Part Number 3: 1SMA5925BT3GOSDKR-ND; Supplier 4: Farnell; Supplier Part Number 4: 1431147RL; Supplier 5: Farnell; Supplier Part Number 5: 1431147; Supplier 6: Newark; Supplier Part Number 6: 71J9198; Supplier 7: Mouser; Supplier Part Number 7: 863-1SMA5925BT3G; Packing: Tape and Reel; RoHS: Pb-Free; Mounting Technology: Surface Mount; ComponentLink1Description: Manufacturer URL; ComponentLink1URL: http://www.onsemi.com/; ComponentLink2Description: Datasheet; ComponentLink2URL: http://www.onsemi.com/pub_link/Collateral/1SMA5913BT3-D.PDF; ComponentLink3Description: Package Specification; ComponentLink3URL: http://www.onsemi.com/pub_link/Collateral/1SMA5913BT3-D.PDF
footprint ONSC-SMA-2-403D-02_F_V (Molded, 2-Leads, Body 4.32x2.6mm)
pins: 1 K, 2 A

## 1SMA5926BT3G
designator D?
1.5 W Zener Voltage Regulator, 2-Pin SMA, Pb-Free, Tape and Reel; Manufacturer: On Semiconductor; PartNumber: 1SMA5926BT3G; VZ Typ (V): 11; DatasheetVersion: Rev. 8; PackageVersion: Rev. F, 11/2008; PackageReference: SMA-2-403D-02_F; PackageDescription: 2-Pin Small Molded Package, J-Bend Lead, Body 2.605 x 4.315 mm; Supplier 1: Newark; Supplier Part Number 1: 45W9639; Supplier 2: Mouser; Supplier Part Number 2: 863-1SMA5926BT3G; Packing: Tape and Reel; RoHS: Pb-Free; Mounting Technology: Surface Mount; ComponentLink1Description: Manufacturer URL; ComponentLink1URL: http://www.onsemi.com/; ComponentLink2Description: Datasheet; ComponentLink2URL: http://www.onsemi.com/pub_link/Collateral/1SMA5913BT3-D.PDF; ComponentLink3Description: Package Specification; ComponentLink3URL: http://www.onsemi.com/pub_link/Collateral/1SMA5913BT3-D.PDF
footprint ONSC-SMA-2-403D-02_F_V (Molded, 2-Leads, Body 4.32x2.6mm)
pins: 1 K, 2 A

## 1SMA5927BT3
designator D?
1.5 W Zener Voltage Regulator, 2-Pin SMA, Tape and Reel; Manufacturer: On Semiconductor; PartNumber: 1SMA5927BT3; VZ Typ (V): 12; DatasheetVersion: Rev. 8; PackageVersion: Rev. F, 11/2008; PackageReference: SMA-2-403D-02_F; PackageDescription: 2-Pin Small Molded Package, J-Bend Lead, Body 2.605 x 4.315 mm; Supplier 1: Digi-Key; Supplier Part Number 1: 1SMA5927BT3OSCT-ND; Supplier 2: Digi-Key; Supplier Part Number 2: 1SMA5927BT3OSDKR-ND; Packing: Tape and Reel; Mounting Technology: Surface Mount; ComponentLink1Description: Manufacturer URL; ComponentLink1URL: http://www.onsemi.com/; ComponentLink2Description: Datasheet; ComponentLink2URL: http://www.onsemi.com/pub_link/Collateral/1SMA5913BT3-D.PDF; ComponentLink3Description: Package Specification; ComponentLink3URL: http://www.onsemi.com/pub_link/Collateral/1SMA5913BT3-D.PDF
footprint ONSC-SMA-2-403D-02_F_V (Molded, 2-Leads, Body 4.32x2.6mm)
pins: 1 K, 2 A

## 1SMA5927BT3G
designator D?
1.5 W Zener Voltage Regulator, 2-Pin SMA, Pb-Free, Tape and Reel; Manufacturer: On Semiconductor; PartNumber: 1SMA5927BT3G; VZ Typ (V): 12; DatasheetVersion: Rev. 8; PackageVersion: Rev. F, 11/2008; PackageReference: SMA-2-403D-02_F; PackageDescription: 2-Pin Small Molded Package, J-Bend Lead, Body 2.605 x 4.315 mm; Supplier 1: Digi-Key; Supplier Part Number 1: 1SMA5927BT3GOSTR-ND; Supplier 2: Digi-Key; Supplier Part Number 2: 1SMA5927BT3GOSCT-ND; Supplier 3: Digi-Key; Supplier Part Number 3: 1SMA5927BT3GOSDKR-ND; Supplier 4: Newark; Supplier Part Number 4: 45J2419; Supplier 5: Mouser; Supplier Part Number 5: 863-1SMA5927BT3G; Packing: Tape and Reel; RoHS: Pb-Free; Mounting Technology: Surface Mount; ComponentLink1Description: Manufacturer URL; ComponentLink1URL: http://www.onsemi.com/; ComponentLink2Description: Datasheet; ComponentLink2URL: http://www.onsemi.com/pub_link/Collateral/1SMA5913BT3-D.PDF; ComponentLink3Description: Package Specification; ComponentLink3URL: http://www.onsemi.com/pub_link/Collateral/1SMA5913BT3-D.PDF
footprint ONSC-SMA-2-403D-02_F_V (Molded, 2-Leads, Body 4.32x2.6mm)
pins: 1 K, 2 A

## 1SMA5928BT3
designator D?
1.5 W Zener Voltage Regulator, 2-Pin SMA, Tape and Reel; Manufacturer: On Semiconductor; PartNumber: 1SMA5928BT3; VZ Typ (V): 13; DatasheetVersion: Rev. 8; PackageVersion: Rev. F, 11/2008; PackageReference: SMA-2-403D-02_F; PackageDescription: 2-Pin Small Molded Package, J-Bend Lead, Body 2.605 x 4.315 mm; Supplier 1: Digi-Key; Supplier Part Number 1: 1SMA5928BT3OSCT-ND; Supplier 2: Digi-Key; Supplier Part Number 2: 1SMA5928BT3OSDKR-ND; Packing: Tape and Reel; Mounting Technology: Surface Mount; ComponentLink1Description: Manufacturer URL; ComponentLink1URL: http://www.onsemi.com/; ComponentLink2Description: Datasheet; ComponentLink2URL: http://www.onsemi.com/pub_link/Collateral/1SMA5913BT3-D.PDF; ComponentLink3Description: Package Specification; ComponentLink3URL: http://www.onsemi.com/pub_link/Collateral/1SMA5913BT3-D.PDF
footprint ONSC-SMA-2-403D-02_F_V (Molded, 2-Leads, Body 4.32x2.6mm)
pins: 1 K, 2 A

## 1SMA5928BT3G
designator D?
1.5 W Zener Voltage Regulator, 2-Pin SMA, Pb-Free, Tape and Reel; Manufacturer: On Semiconductor; PartNumber: 1SMA5928BT3G; VZ Typ (V): 13; DatasheetVersion: Rev. 8; PackageVersion: Rev. F, 11/2008; PackageReference: SMA-2-403D-02_F; PackageDescription: 2-Pin Small Molded Package, J-Bend Lead, Body 2.605 x 4.315 mm; Supplier 1: Digi-Key; Supplier Part Number 1: 1SMA5928BT3GOSTR-ND; Supplier 2: Digi-Key; Supplier Part Number 2: 1SMA5928BT3GOSCT-ND; Supplier 3: Digi-Key; Supplier Part Number 3: 1SMA5928BT3GOSDKR-ND; Supplier 4: Farnell; Supplier Part Number 4: 2101827; Supplier 5: Newark; Supplier Part Number 5: 26K5256; Supplier 6: Mouser; Supplier Part Number 6: 863-1SMA5928BT3G; Packing: Tape and Reel; RoHS: Pb-Free; Mounting Technology: Surface Mount; ComponentLink1Description: Manufacturer URL; ComponentLink1URL: http://www.onsemi.com/; ComponentLink2Description: Datasheet; ComponentLink2URL: http://www.onsemi.com/pub_link/Collateral/1SMA5913BT3-D.PDF; ComponentLink3Description: Package Specification; ComponentLink3URL: http://www.onsemi.com/pub_link/Collateral/1SMA5913BT3-D.PDF
footprint ONSC-SMA-2-403D-02_F_V (Molded, 2-Leads, Body 4.32x2.6mm)
pins: 1 K, 2 A

## 1SMA5929BT3
designator D?
1.5 W Zener Voltage Regulator, 2-Pin SMA, Tape and Reel; Manufacturer: On Semiconductor; PartNumber: 1SMA5929BT3; VZ Typ (V): 15; DatasheetVersion: Rev. 8; PackageVersion: Rev. F, 11/2008; PackageReference: SMA-2-403D-02_F; PackageDescription: 2-Pin Small Molded Package, J-Bend Lead, Body 2.605 x 4.315 mm; Supplier 1: Digi-Key; Supplier Part Number 1: 1SMA5929BT3OSCT-ND; Packing: Tape and Reel; Mounting Technology: Surface Mount; ComponentLink1Description: Manufacturer URL; ComponentLink1URL: http://www.onsemi.com/; ComponentLink2Description: Datasheet; ComponentLink2URL: http://www.onsemi.com/pub_link/Collateral/1SMA5913BT3-D.PDF; ComponentLink3Description: Package Specification; ComponentLink3URL: http://www.onsemi.com/pub_link/Collateral/1SMA5913BT3-D.PDF
footprint ONSC-SMA-2-403D-02_F_V (Molded, 2-Leads, Body 4.32x2.6mm)
pins: 1 K, 2 A

## 1SMA5929BT3G
designator D?
1.5 W Zener Voltage Regulator, 2-Pin SMA, Pb-Free, Tape and Reel; Manufacturer: On Semiconductor; PartNumber: 1SMA5929BT3G; VZ Typ (V): 15; DatasheetVersion: Rev. 8; PackageVersion: Rev. F, 11/2008; PackageReference: SMA-2-403D-02_F; PackageDescription: 2-Pin Small Molded Package, J-Bend Lead, Body 2.605 x 4.315 mm; Supplier 1: Digi-Key; Supplier Part Number 1: 1SMA5929BT3GOSTR-ND; Supplier 2: Digi-Key; Supplier Part Number 2: 1SMA5929BT3GOSCT-ND; Supplier 3: Digi-Key; Supplier Part Number 3: 1SMA5929BT3GOSDKR-ND; Supplier 4: Farnell; Supplier Part Number 4: 1459011; Supplier 5: Farnell; Supplier Part Number 5: 1459011RL; Supplier 6: Farnell; Supplier Part Number 6: 2370850; Supplier 7: Newark; Supplier Part Number 7: 45J2420; Supplier 8: Newark; Supplier Part Number 8: 67R1401; Supplier 9: Mouser; Supplier Part Number 9: 863-1SMA5929BT3G; Packing: Tape and Reel; RoHS: Pb-Free; Mounting Technology: Surface Mount; ComponentLink1Description: Manufacturer URL; ComponentLink1URL: http://www.onsemi.com/; ComponentLink2Description: Datasheet; ComponentLink2URL: http://www.onsemi.com/pub_link/Collateral/1SMA5913BT3-D.PDF; ComponentLink3Description: Package Specification; ComponentLink3URL: http://www.onsemi.com/pub_link/Collateral/1SMA5913BT3-D.PDF
footprint ONSC-SMA-2-403D-02_F_V (Molded, 2-Leads, Body 4.32x2.6mm)
pins: 1 K, 2 A

## 1SMA5930BT3G
designator D?
1.5 W Zener Voltage Regulator, 2-Pin SMA, Pb-Free, Tape and Reel; Manufacturer: On Semiconductor; PartNumber: 1SMA5930BT3G; VZ Typ (V): 16; DatasheetVersion: Rev. 8; PackageVersion: Rev. F, 11/2008; PackageReference: SMA-2-403D-02_F; PackageDescription: 2-Pin Small Molded Package, J-Bend Lead, Body 2.605 x 4.315 mm; Supplier 1: Digi-Key; Supplier Part Number 1: 1SMA5930BT3GOSTR-ND; Supplier 2: Digi-Key; Supplier Part Number 2: 1SMA5930BT3GOSCT-ND; Supplier 3: Digi-Key; Supplier Part Number 3: 1SMA5930BT3GOSDKR-ND; Supplier 4: Farnell; Supplier Part Number 4: 1431149RL; Supplier 5: Farnell; Supplier Part Number 5: 1431149; Supplier 6: Newark; Supplier Part Number 6: 87K6746; Supplier 7: Newark; Supplier Part Number 7: 26K5257; Supplier 8: Mouser; Supplier Part Number 8: 863-1SMA5930BT3G; Packing: Tape and Reel; RoHS: Pb-Free; Mounting Technology: Surface Mount; ComponentLink1Description: Manufacturer URL; ComponentLink1URL: http://www.onsemi.com/; ComponentLink2Description: Datasheet; ComponentLink2URL: http://www.onsemi.com/pub_link/Collateral/1SMA5913BT3-D.PDF; ComponentLink3Description: Package Specification; ComponentLink3URL: http://www.onsemi.com/pub_link/Collateral/1SMA5913BT3-D.PDF
footprint ONSC-SMA-2-403D-02_F_V (Molded, 2-Leads, Body 4.32x2.6mm)
pins: 1 K, 2 A

## 1SMA5931BT3G
designator D?
1.5 W Zener Voltage Regulator, 2-Pin SMA, Pb-Free, Tape and Reel; Manufacturer: On Semiconductor; PartNumber: 1SMA5931BT3G; VZ Typ (V): 18; DatasheetVersion: Rev. 8; PackageVersion: Rev. F, 11/2008; PackageReference: SMA-2-403D-02_F; PackageDescription: 2-Pin Small Molded Package, J-Bend Lead, Body 2.605 x 4.315 mm; Supplier 1: Digi-Key; Supplier Part Number 1: 1SMA5931BT3GOSTR-ND; Supplier 2: Digi-Key; Supplier Part Number 2: 1SMA5931BT3GOSCT-ND; Supplier 3: Digi-Key; Supplier Part Number 3: 1SMA5931BT3GOSDKR-ND; Supplier 4: Farnell; Supplier Part Number 4: 1431150; Supplier 5: Farnell; Supplier Part Number 5: 1431150RL; Supplier 6: Newark; Supplier Part Number 6: 26K5258; Supplier 7: Mouser; Supplier Part Number 7: 863-1SMA5931BT3G; Packing: Tape and Reel; RoHS: Pb-Free; Mounting Technology: Surface Mount; ComponentLink1Description: Manufacturer URL; ComponentLink1URL: http://www.onsemi.com/; ComponentLink2Description: Datasheet; ComponentLink2URL: http://www.onsemi.com/pub_link/Collateral/1SMA5913BT3-D.PDF; ComponentLink3Description: Package Specification; ComponentLink3URL: http://www.onsemi.com/pub_link/Collateral/1SMA5913BT3-D.PDF
footprint ONSC-SMA-2-403D-02_F_V (Molded, 2-Leads, Body 4.32x2.6mm)
pins: 1 K, 2 A

## 1SMA5932BT3G
designator D?
1.5 W Zener Voltage Regulator, 2-Pin SMA, Pb-Free, Tape and Reel; Manufacturer: On Semiconductor; PartNumber: 1SMA5932BT3G; VZ Typ (V): 20; DatasheetVersion: Rev. 8; PackageVersion: Rev. F, 11/2008; PackageReference: SMA-2-403D-02_F; PackageDescription: 2-Pin Small Molded Package, J-Bend Lead, Body 2.605 x 4.315 mm; Supplier 1: Digi-Key; Supplier Part Number 1: 1SMA5932BT3GOSTR-ND; Supplier 2: Digi-Key; Supplier Part Number 2: 1SMA5932BT3GOSCT-ND; Supplier 3: Digi-Key; Supplier Part Number 3: 1SMA5932BT3GOSDKR-ND; Supplier 4: Newark; Supplier Part Number 4: 26K5259; Supplier 5: Newark; Supplier Part Number 5: 85W2303; Supplier 6: Mouser; Supplier Part Number 6: 863-1SMA5932BT3G; Packing: Tape and Reel; RoHS: Pb-Free; Mounting Technology: Surface Mount; ComponentLink1Description: Manufacturer URL; ComponentLink1URL: http://www.onsemi.com/; ComponentLink2Description: Datasheet; ComponentLink2URL: http://www.onsemi.com/pub_link/Collateral/1SMA5913BT3-D.PDF; ComponentLink3Description: Package Specification; ComponentLink3URL: http://www.onsemi.com/pub_link/Collateral/1SMA5913BT3-D.PDF
footprint ONSC-SMA-2-403D-02_F_V (Molded, 2-Leads, Body 4.32x2.6mm)
pins: 1 K, 2 A

## 1SMA5933BT3G
designator D?
1.5 W Zener Voltage Regulator, 2-Pin SMA, Pb-Free, Tape and Reel; Manufacturer: On Semiconductor; PartNumber: 1SMA5933BT3G; VZ Typ (V): 22; DatasheetVersion: Rev. 8; PackageVersion: Rev. F, 11/2008; PackageReference: SMA-2-403D-02_F; PackageDescription: 2-Pin Small Molded Package, J-Bend Lead, Body 2.605 x 4.315 mm; Supplier 1: Digi-Key; Supplier Part Number 1: 1SMA5933BT3GOSTR-ND; Supplier 2: Digi-Key; Supplier Part Number 2: 1SMA5933BT3GOSCT-ND; Supplier 3: Digi-Key; Supplier Part Number 3: 1SMA5933BT3GOSDKR-ND; Supplier 4: Newark; Supplier Part Number 4: 10N9736; Supplier 5: Newark; Supplier Part Number 5: 42K3074; Supplier 6: Mouser; Supplier Part Number 6: 863-1SMA5933BT3G; Packing: Tape and Reel; RoHS: Pb-Free; Mounting Technology: Surface Mount; ComponentLink1Description: Manufacturer URL; ComponentLink1URL: http://www.onsemi.com/; ComponentLink2Description: Datasheet; ComponentLink2URL: http://www.onsemi.com/pub_link/Collateral/1SMA5913BT3-D.PDF; ComponentLink3Description: Package Specification; ComponentLink3URL: http://www.onsemi.com/pub_link/Collateral/1SMA5913BT3-D.PDF
footprint ONSC-SMA-2-403D-02_F_V (Molded, 2-Leads, Body 4.32x2.6mm)
pins: 1 K, 2 A

## 1SMA5934BT3
designator D?
1.5 W Zener Voltage Regulator, 2-Pin SMA, Tape and Reel; Manufacturer: On Semiconductor; PartNumber: 1SMA5934BT3; VZ Typ (V): 24; DatasheetVersion: Rev. 8; PackageVersion: Rev. F, 11/2008; PackageReference: SMA-2-403D-02_F; PackageDescription: 2-Pin Small Molded Package, J-Bend Lead, Body 2.605 x 4.315 mm; Supplier 1: Digi-Key; Supplier Part Number 1: 1SMA5934BT3OSCT-ND; Supplier 2: Digi-Key; Supplier Part Number 2: 1SMA5934BT3OSDKR-ND; Packing: Tape and Reel; Mounting Technology: Surface Mount; ComponentLink1Description: Manufacturer URL; ComponentLink1URL: http://www.onsemi.com/; ComponentLink2Description: Datasheet; ComponentLink2URL: http://www.onsemi.com/pub_link/Collateral/1SMA5913BT3-D.PDF; ComponentLink3Description: Package Specification; ComponentLink3URL: http://www.onsemi.com/pub_link/Collateral/1SMA5913BT3-D.PDF
footprint ONSC-SMA-2-403D-02_F_V (Molded, 2-Leads, Body 4.32x2.6mm)
pins: 1 K, 2 A

## 1SMA5934BT3G
designator D?
1.5 W Zener Voltage Regulator, 2-Pin SMA, Pb-Free, Tape and Reel; Manufacturer: On Semiconductor; PartNumber: 1SMA5934BT3G; VZ Typ (V): 24; DatasheetVersion: Rev. 8; PackageVersion: Rev. F, 11/2008; PackageReference: SMA-2-403D-02_F; PackageDescription: 2-Pin Small Molded Package, J-Bend Lead, Body 2.605 x 4.315 mm; Supplier 1: Digi-Key; Supplier Part Number 1: 1SMA5934BT3GOSTR-ND; Supplier 2: Digi-Key; Supplier Part Number 2: 1SMA5934BT3GOSCT-ND; Supplier 3: Digi-Key; Supplier Part Number 3: 1SMA5934BT3GOSDKR-ND; Supplier 4: Farnell; Supplier Part Number 4: 1431151RL; Supplier 5: Farnell; Supplier Part Number 5: 1431151; Supplier 6: Newark; Supplier Part Number 6: 45J2421; Supplier 7: Mouser; Supplier Part Number 7: 863-1SMA5934BT3G; Packing: Tape and Reel; RoHS: Pb-Free; Mounting Technology: Surface Mount; ComponentLink1Description: Manufacturer URL; ComponentLink1URL: http://www.onsemi.com/; ComponentLink2Description: Datasheet; ComponentLink2URL: http://www.onsemi.com/pub_link/Collateral/1SMA5913BT3-D.PDF; ComponentLink3Description: Package Specification; ComponentLink3URL: http://www.onsemi.com/pub_link/Collateral/1SMA5913BT3-D.PDF
footprint ONSC-SMA-2-403D-02_F_V (Molded, 2-Leads, Body 4.32x2.6mm)
pins: 1 K, 2 A

## 1SMA5935BT3G
designator D?
1.5 W Zener Voltage Regulator, 2-Pin SMA, Pb-Free, Tape and Reel; Manufacturer: On Semiconductor; PartNumber: 1SMA5935BT3G; VZ Typ (V): 27; DatasheetVersion: Rev. 8; PackageVersion: Rev. F, 11/2008; PackageReference: SMA-2-403D-02_F; PackageDescription: 2-Pin Small Molded Package, J-Bend Lead, Body 2.605 x 4.315 mm; Supplier 1: Digi-Key; Supplier Part Number 1: 1SMA5935BT3GOSTR-ND; Supplier 2: Digi-Key; Supplier Part Number 2: 1SMA5935BT3GOSCT-ND; Supplier 3: Digi-Key; Supplier Part Number 3: 1SMA5935BT3GOSDKR-ND; Supplier 4: Farnell; Supplier Part Number 4: 1431152RL; Supplier 5: Newark; Supplier Part Number 5: 71J9199; Supplier 6: Mouser; Supplier Part Number 6: 863-1SMA5935BT3G; Packing: Tape and Reel; RoHS: Pb-Free; Mounting Technology: Surface Mount; ComponentLink1Description: Manufacturer URL; ComponentLink1URL: http://www.onsemi.com/; ComponentLink2Description: Datasheet; ComponentLink2URL: http://www.onsemi.com/pub_link/Collateral/1SMA5913BT3-D.PDF; ComponentLink3Description: Package Specification; ComponentLink3URL: http://www.onsemi.com/pub_link/Collateral/1SMA5913BT3-D.PDF
footprint ONSC-SMA-2-403D-02_F_V (Molded, 2-Leads, Body 4.32x2.6mm)
pins: 1 K, 2 A